# Altium footprint library ZLM.PcbLib: 58 footprints (part 2 of 4)
Each footprint in its own frame and in the unit in brackets; x right, y up, seen from the top. Pads: shape width x height; smd on the part's side, far side on the other; paste and mask are expansions set on the pad; w line width, h text height; cw(c..) or ccw(c..) is an arc to the next point about the centre after c.
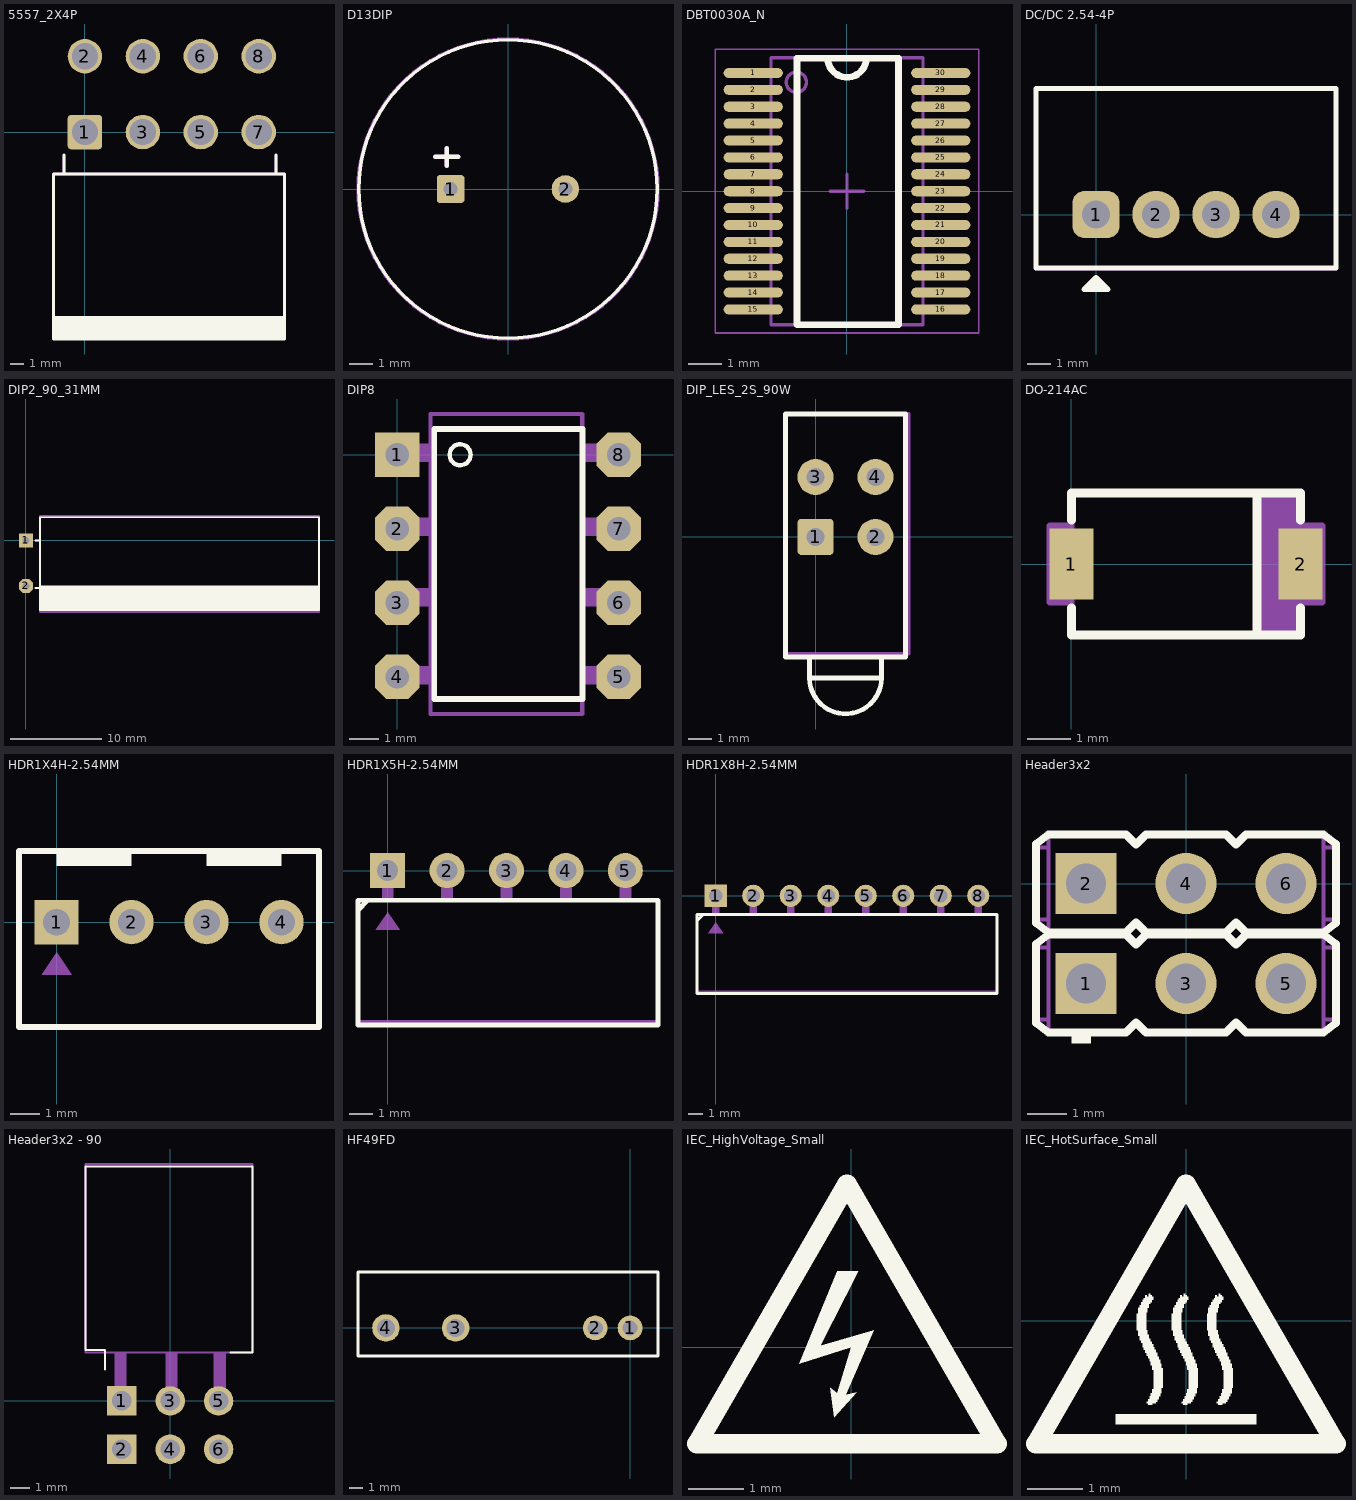
[diagram p1: the footprints below, top view; thin cyan lines are the x and y axes]

## 5557_2X4P [mm]
pads (8):
  rrect20% 2.5x2.5 hole 1.9: 1(0,0)
  round 2.5 hole 1.9: 2(0,5.5) 3(4.2,0) 4(4.2,5.5) 5(8.4,0) 6(8.4,5.5) 7(12.6,0) 8(12.6,5.5)
Top Overlay:
  rectangle: -2.286,-15 14.478,-13.335
  lines w0.203: -1.524,-3.048 -1.524,-1.651 ; 13.843,-3.048 13.843,-1.651 ; -2.286,-15 -2.286,-3.048 14.478,-3.048 14.478,-15 0,-15 -2.286,-15
Mechanical 5:
  rectangle: -2.286,-14.986 14.478,-13.335
  lines w0.203: -1.524,-3.048 -1.524,-1.651 ; 13.843,-3.048 13.843,-1.651 ; -2.286,-14.986 -2.286,-3.048 14.478,-3.048 14.478,-14.986 -2.286,-14.986
  text ".Designator" at -0.508,-9.398 h1.02

## D13DIP [mm]
pads (2):
  rrect20% 1.2x1.2 hole 0.6: 1(-2.5,0)
  round 1.2 hole 0.6: 2(2.5,0)
Top Overlay:
  circle w0.152: c0,0 r6.5
  lines w0.2: -3.175,1.397 -2.159,1.397 ; -2.667,1.016 -2.667,1.778
Mechanical 5:
  circle w0.152: c0,0 r6.532
  lines w0.2: -3.175,1.397 -2.159,1.397 ; -2.667,1.016 -2.667,1.778

## DBT0030A_N [mm] "TSSOP, 30-Leads, Body 7.8x4.4mm, Pitch 0.5mm, IPC Medium Density"
height 1.2
pads (30):
  oval 1.75x0.3 smd: 1(-2.775,3.5) 2(-2.775,3) 3(-2.775,2.5) 4(-2.775,2) 5(-2.775,1.5) 6(-2.775,1) 7(-2.775,0.5) 8(-2.775,0) 9(-2.775,-0.5) 10(-2.775,-1) 11(-2.775,-1.5) 12(-2.775,-2) 13(-2.775,-2.5) 14(-2.775,-3) 15(-2.775,-3.5) 16(2.775,-3.5) 17(2.775,-3) 18(2.775,-2.5) 19(2.775,-2) 20(2.775,-1.5) 21(2.775,-1) 22(2.775,-0.5) 23(2.775,0) 24(2.775,0.5) 25(2.775,1) 26(2.775,1.5) 27(2.775,2) 28(2.775,2.5) 29(2.775,3) 30(2.775,3.5)
Top Overlay:
  lines w0.2: -1.476,-3.95 1.524,-3.95
  lines w0.203: -1.476,-3.95 -1.476,3.937 1.524,3.937 1.524,-3.95 ; -0.568,3.937 ccw(c0,3.937) 0.568,3.937
Mechanical 5:
  circle w0.1: c-1.5,3.225 r0.3
  lines w0.1: -2.25,-3.95 2.25,-3.95 2.25,3.95 -2.25,3.95 -2.25,-3.95
  text ".Designator" at -0.254,2.794 h1.02
Mechanical 15:
  lines w0.05: -3.9,-4.2 3.9,-4.2 3.9,4.2 -3.9,4.2 -3.9,-4.2
  lines w0.1: -0.5,0 0.5,0 ; 0,-0.5 0,0.5
3D body: height 1.2, standoff 0.05, extent -2.25,-3.95 2.25,3.95

## DC/DC 2.54-4P [mm]
pads (4):
  rrect50% 2x2 hole 1.2: 1(0,0)
  round 2 hole 1.2: 2(2.54,0) 3(5.08,0) 4(7.62,0)
Top Overlay:
  region: 0,-2.667 -0.508,-3.175 0.508,-3.175
  lines w0.203: -2.54,5.309 -2.54,-2.261 10.16,-2.261 10.16,5.334 -2.54,5.334 ; -0.508,-3.175 0.508,-3.175 0,-2.667 -0.508,-3.175
Mechanical 5:
  lines w0.152: -2.54,-2.286 10.16,-2.286 10.16,5.334 -2.54,5.334 -2.54,-2.286 ; -0.508,-3.175 0.508,-3.175 0,-2.667 -0.508,-3.175
  text ".Designator" at 1.27,2.159 h0.76

## DIP2_90_31MM [mil]
pads (2):
  rect 60x60 hole 31.5: 1(0,0)
  oct 60x60 hole 31.5: 2(0,-196.85)
Top Overlay:
  rectangle: 60,-300 1266.3,-195
  lines w8: 40,-205 60,-205 ; 40,0 60,0 ; 60,-300 1266.3,-300 1266.3,100 60,100 60,-300
Mechanical 5:
  rectangle: 60,-308.7 1266.3,-220
  lines w8: 40,-205 60,-205 ; 40,0 55,0 ; 60,-308.7 1266.3,-308.7 1266.3,105 60,105 60,-308.7
  text ".Designator" at 470,-90 h30

## DIP8 [mil]
pads (8):
  rect 60x60 hole 31.5: 1(0,0)
  oct 60x60 hole 31.5: 2(0,-100) 3(0,-200) 4(0,-300) 5(299.21,-300) 6(299.21,-200) 7(299.21,-100) 8(299.21,0)
Top Overlay:
  circle w6: c85,0 r14.14
  lines w8: 50,-330 50,35 250,35 250,-330 50,-330
Mechanical 5:
  rectangle: -25,-10 45,15
  rectangle: -25,-110 45,-85
  rectangle: -25,-205 45,-180
  rectangle: -25,-310 45,-285
  rectangle: 250,-310 320,-285
  rectangle: 250,-205 320,-180
  rectangle: 250,-110 320,-85
  rectangle: 250,-10 320,15
  lines w6: 45,-350 250,-350 250,55 45,55 45,-350
  text ".Designator" at 155,-285 h30

## DIP_LES_2S_90W [mil]
pads (4):
  rrect20% 60x60 hole 30: 1(0,0)
  round 60 hole 30: 2(100,0) 3(0,100) 4(100,100)
Top Overlay:
  lines w8: -10,-200 -10,-235 ; 110,-200 110,-235 ; -10,-235 ccw(c50,-235) 110,-235 ; -10,-235 110,-235 ; -50,-200 150,-200 150,205 -50,205 -50,-200
Mechanical 5:
  lines w6: -10.21,-235 ccw(c50,-235) 110.21,-235 ; -10,-195 -10,-235 110,-235 110,-195 ; -50,-195 150,-195 155,-195 155,205 -50,205 -50,-195
  text ".Designator" at -25,-85 h30

## DO-214AC [mil]
pads (2):
  rect 40x65 smd: 1(0,0) 2(210,0)
Top Overlay:
  lines w8: 0,-40 0,-65 210,-65 210,-40 ; 0,40 0,65 210,65 210,40 ; 170,-60 170,60
Mechanical 5:
  rectangle: 170,-65 210,65
  lines w6: 0,-35 -20,-35 -20,35 0,35 ; 170,-65 170,65 ; 210,-35 230,-35 230,35 210,35 ; 0,-65 0,-60 0,65 210,65 210,-65 0,-65
  text ".Designator" at 20,-15 h30

## HDR1X4H-2.54MM [mm]
height 6
pads (4):
  rect 1.5x1.5 hole 0.9: 1(0,0)
  round 1.5 hole 0.9: 2(2.54,0) 3(5.08,0) 4(7.62,0)
Top Overlay:
  rectangle: 5.08,1.905 7.62,2.413
  rectangle: 0,1.905 2.54,2.413
  lines w0.203: -1.27,-3.556 -1.27,2.413 8.89,2.413 8.89,-3.556 -1.27,-3.556
Mechanical 5:
  region: 0,-1.016 -0.508,-1.778 0.508,-1.778
  lines w0.152: -1.27,-3.556 -1.27,2.413 8.89,2.413 8.89,-3.556 -1.27,-3.556
  text ".Designator" at 0.635,0 h0.76

## HDR1X5H-2.54MM [mm] "Connector; Header; 5 Position; Right Angle"
pads (5):
  rect 1.5x1.5 hole 0.9: 1(0,0)
  round 1.5 hole 0.9: 2(2.54,0) 3(5.08,0) 4(7.62,0) 5(10.16,0)
Top Overlay:
  lines w0.203: -1.27,-1.693 -0.847,-1.27 ; -1.27,-6.604 11.557,-6.604 11.557,-1.27 -1.27,-1.27 -1.27,-6.604
Mechanical 5:
  rectangle: -0.254,-1.27 0.254,0.381
  rectangle: 2.286,-1.27 2.794,0.381
  rectangle: 4.826,-1.27 5.334,0.381
  rectangle: 7.366,-1.27 7.874,0.381
  rectangle: 9.906,-1.27 10.414,0.381
  region: 0,-1.778 -0.508,-2.54 0.508,-2.54
  lines w0.152: -1.27,-6.477 11.557,-6.477 11.557,-1.27 -1.27,-1.27 -1.27,-6.477
  text ".Designator" at 1.397,-4.445 h0.76

## HDR1X8H-2.54MM [mm] "Connector; Header; 8 Position; Right Angle"
pads (8):
  rect 1.5x1.5 hole 0.9: 1(0,0)
  round 1.5 hole 0.9: 2(2.54,0) 3(5.08,0) 4(7.62,0) 5(10.16,0) 6(12.7,0) 7(15.24,0) 8(17.78,0)
Top Overlay:
  lines w0.203: -1.27,-1.693 -0.847,-1.27 ; -1.27,-6.604 -1.27,-1.27 19.05,-1.27 19.05,-6.604 -1.27,-6.604
Mechanical 5:
  rectangle: 17.526,-1.27 18.034,0.381
  rectangle: 14.986,-1.27 15.494,0.381
  rectangle: 12.446,-1.27 12.954,0.381
  rectangle: 9.906,-1.27 10.414,0.381
  rectangle: 7.366,-1.27 7.874,0.381
  rectangle: 4.826,-1.27 5.334,0.381
  rectangle: 2.286,-1.27 2.794,0.381
  rectangle: -0.254,-1.27 0.254,0.381
  region: 0,-1.778 -0.508,-2.54 0.508,-2.54
  lines w0.152: -1.27,-6.477 -1.27,-1.27 19.05,-1.27 19.05,-6.477 -1.27,-6.477
  text ".Designator" at 1.397,-4.445 h0.76

## Header3x2 [mm] "Header, 2.54mm, 3x2, TH"
height 8.88
pads (6):
  rect 1.55x1.55 hole 1.02: 1(-2.54,-2.54) 2(-2.54,0)
  round 1.55 hole 1.02: 3(0,-2.54) 4(0,0) 5(2.54,-2.54) 6(2.54,0)
Top Overlay:
  rectangle: -2.913,-4.064 -2.413,-3.809
  lines w0.2: -3.81,-3.543 -3.492,-3.785 -1.524,-3.785 -1.27,-3.531 -1.016,-3.785 1.016,-3.785 1.27,-3.531 1.524,-3.785 3.492,-3.785 3.81,-3.543 3.81,-3.454 3.81,-1.626 3.81,-1.537 3.492,-1.295 1.524,-1.295 1.27,-1.549 1.016,-1.295 -1.016,-1.295 -1.27,-1.549 -1.524,-1.295 -3.492,-1.295 -3.81,-1.537 -3.81,-1.626 -3.81,-3.454 -3.81,-3.543 ; -3.81,-1.003 -3.81,-0.914 -3.81,0.914 -3.81,1.003 -3.492,1.245 -1.524,1.245 -1.27,0.991 -1.016,1.245 1.016,1.245 1.27,0.991 1.524,1.245 3.492,1.245 3.81,1.003 3.81,0.914 3.81,-0.914 3.81,-1.003 3.492,-1.245 1.524,-1.245 1.27,-0.991 1.016,-1.245 -1.016,-1.245 -1.27,-0.991 -1.524,-1.245 -3.492,-1.245 -3.81,-1.003
Mechanical 5:
  lines w0.1: -3.492,-3.708 -3.492,-1.372 ; -3.492,-3.454 -3.81,-3.454 -3.81,-3.543 ; -3.492,-1.626 -3.81,-1.626 ; -3.492,-1.168 -3.492,1.168 ; -3.492,-0.914 -3.81,-0.914 ; -3.492,0.914 -3.81,0.914 -3.81,1.003 ; 3.492,-3.708 3.492,-1.372 ; 3.492,-3.454 3.81,-3.454 ; 3.492,-1.626 3.81,-1.626 ; 3.492,-1.168 3.492,1.168 ; 3.492,-0.914 3.81,-0.914 ; 3.492,0.914 3.81,0.914 ; -3.81,-3.543 -3.81,-1.626 ; -3.81,-3.543 -3.492,-3.785 -1.524,-3.785 -1.27,-3.531 -1.016,-3.785 1.016,-3.785 1.27,-3.531 1.524,-3.785 3.492,-3.785 3.81,-3.543 3.81,-3.454 ; -3.81,-1.626 -3.81,-1.537 -3.492,-1.295 -1.524,-1.295 -1.27,-1.549 -1.016,-1.295 1.016,-1.295 1.27,-1.549 1.524,-1.295 3.492,-1.295 3.81,-1.537 3.81,-1.626 ; -3.81,-0.914 -3.81,1.003 ; -3.81,-0.914 -3.81,-1.003 -3.492,-1.245 -1.524,-1.245 -1.27,-0.991 -1.016,-1.245 1.016,-1.245 1.27,-0.991 1.524,-1.245 3.492,-1.245 3.81,-1.003 3.81,-0.914 ; -3.81,1.003 -3.492,1.245 -1.524,1.245 -1.27,0.991 -1.016,1.245 1.016,1.245 1.27,0.991 1.524,1.245 3.492,1.245 3.81,1.003 3.81,0.914 ; 3.81,-3.454 3.81,-1.626 ; 3.81,-0.914 3.81,0.914
  text ".Designator" at -2.54,-2.794 h0.76

## Header3x2 - 90 [mm] "Header, 2.54mm, 3x2, TH"
height 8.88
pads (6):
  rect 1.55x1.55 hole 1.02: 1(-2.54,0) 2(-2.54,-2.54)
  round 1.55 hole 1.02: 3(0,0) 4(0,-2.54) 5(2.54,0) 6(2.54,-2.54)
Top Overlay:
  lines w0.102: -3.429,1.651 -3.429,2.667 -4.445,2.667 -4.445,12.319 4.318,12.319 4.318,2.54 3.175,2.54
Mechanical 5:
  region: 2.921,-2.921 2.921,-2.286 2.286,-2.286 2.286,-2.921
  region: 0.381,-2.794 0.381,-2.159 -0.254,-2.159 -0.254,-2.794
  region: -2.286,-2.794 -2.286,-2.159 -2.921,-2.159 -2.921,-2.794
  rectangle: 2.286,-0.508 2.921,2.54
  rectangle: -0.254,-0.508 0.381,2.54
  rectangle: -2.921,-0.508 -2.286,2.54
  lines w0.102: -4.445,2.54 -4.445,12.446 4.318,12.446 4.318,2.54 0,2.54 -4.445,2.54
  text ".Designator" at -2.921,4.445 h0.76

## HF49FD [mm]
pads (4):
  round 1.8 hole 1.1: 1(0,0) 2(-2.54,0)
  round 2 hole 1.3: 3(-12.7,0) 4(-17.78,0)
Top Overlay:
  lines w0.203: -19.812,-2.032 -19.812,4.064 2.032,4.064 2.032,-2.032 -19.812,-2.032
Mechanical 5:
  lines w0.152: -19.812,-2.032 -19.812,4.064 2.032,4.064 2.032,-2.032 -19.812,-2.032
  text ".Designator" at -8.128,-1.016 h0.76

## IEC_HighVoltage_Small [mm]
Top Overlay:
  region: -0.254,1.372 0.127,1.372 -0.559,0.025 0.406,0.305 -0.102,-0.864 0.102,-0.813 -0.305,-1.27 -0.381,-0.737 -0.254,-0.838 0,0 -0.94,-0.305
  lines w0.356: -2.794,-1.753 -0.076,2.955 2.642,-1.753 -2.794,-1.753

## IEC_HotSurface_Small [mm]
Top Overlay:
  drawing of 10 lines, arcs and shapes, not listed